# Altium schematic symbol library CONN_HDR_10X2.SchLib: 1 symbol
Pins are listed as number, name and electrical type; pins without a type are passive.

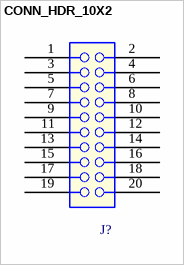
[diagram p0: symbol CONN_HDR_10X2]

## CONN_HDR_10X2
designator J?
CON 2X10 SKT SHRD TH 100MIL CTR 345H AU 126L
pins: 1, 2, 3, 4, 5, 6, 7, 8, 9, 10, 11, 12, 13, 14, 15, 16, 17, 18, 19, 20